# Altium schematic symbol library ESP.SchLib: 2 symbols
Pins are listed as number, name and electrical type; pins without a type are passive.

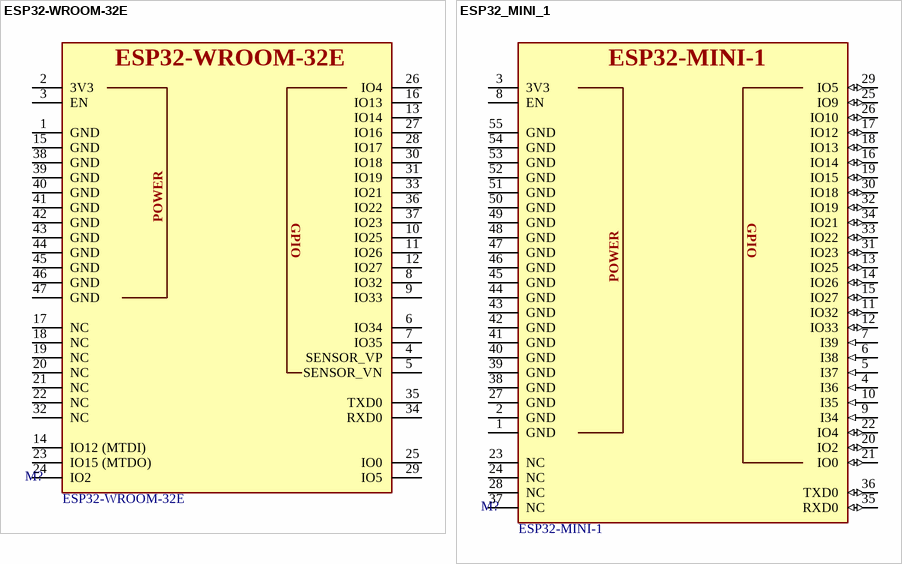
[diagram p0: symbols ESP32-WROOM-32E to ESP32_MINI_1]

## ESP32-WROOM-32E
designator M?  value ESP32-WROOM-32E
ESP32-WROOM-32E Module; Manufacturer 1: Espressif Systems; Manufacturer Part Number 1: *; Package: *
footprint ESP32-WROOM-32E
pins: 1 GND, 2 3V3, 3 EN, 4 SENSOR_VP, 5 SENSOR_VN, 6 IO34, 7 IO35, 8 IO32, 9 IO33, 10 IO25, 11 IO26, 12 IO27, 13 IO14, 14 IO12 (MTDI), 15 GND, 16 IO13, 17 NC, 18 NC, 19 NC, 20 NC, 21 NC, 22 NC, 23 IO15 (MTDO), 24 IO2, 25 IO0, 26 IO4, 27 IO16, 28 IO17, 29 IO5, 30 IO18, 31 IO19, 32 NC, 33 IO21, 34 RXD0, 35 TXD0, 36 IO22, 37 IO23, 38 GND, 39 GND, 40 GND, 41 GND, 42 GND, 43 GND, 44 GND, 45 GND, 46 GND, 47 GND
text: POWER; GPIO

## ESP32_MINI_1
designator M?, comment value ESP32-MINI-1  (hidden comment: ERP_140-3)
ESP32_C3_MINI_1 Module; Manufacturer Part Number 1: ESP32-MINI-1-N4; Manufacturer 1: Espressif Systems; ERP: *; Supplier Part Number 1: *; Supplier 1: *; Package: *
footprint ESP32_MINI_1
footprint ESP32_MINI_1U
pins: 1 GND, 2 GND, 3 3V3 (power), 4 I36 (in), 5 I37 (in), 6 I38 (in), 7 I39 (in), 8 EN, 9 I34 (in), 10 I35 (in), 11 IO32 (io), 12 IO33 (io), 13 IO25 (io), 14 IO26 (io), 15 IO27 (io), 16 IO14 (io), 17 IO12 (io), 18 IO13 (io), 19 IO15 (io), 20 IO2 (io), 21 IO0 (io), 22 IO4 (io), 23 NC, 24 NC, 25 IO9 (io), 26 IO10 (io), 27 GND, 28 NC, 29 IO5 (io), 30 IO18 (io), 31 IO23 (io), 32 IO19 (io), 33 IO22 (io), 34 IO21 (io), 35 RXD0 (io), 36 TXD0 (io), 37 NC, 38 GND, 39 GND, 40 GND, 41 GND, 42 GND, 43 GND, 44 GND, 45 GND, 46 GND, 47 GND, 48 GND, 49 GND, 50 GND, 51 GND, 52 GND, 53 GND, 54 GND, 55 GND
text: GPIO; POWER